# EAGLE library part STLINK-V3MINI (library st-linkV3MINI)
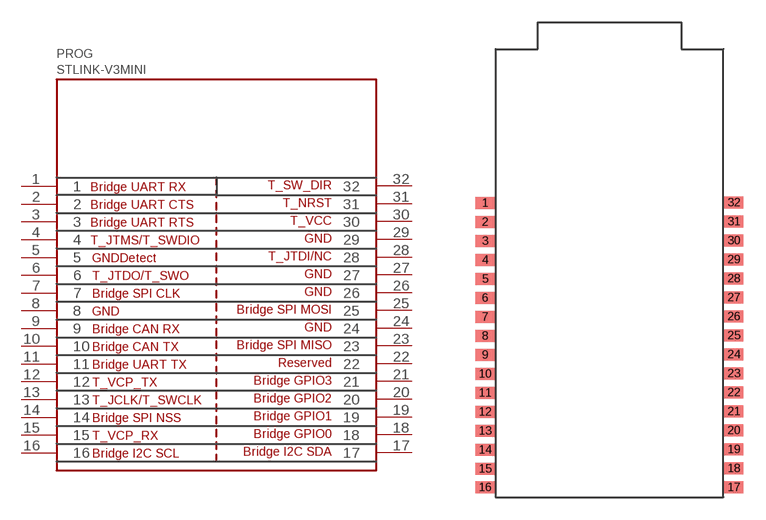
[diagram p0: symbol with the pads of ECOPACK; footprint ECOPACK]

Designator prefix PROG

## STLINK-V3MINI  [ECOPACK]
1  1
2  2
3  3
4  4
5  5
6  6
7  7
8  8
9  9
10  10
11  11
12  12
13  13
14  14
15  15
16  16
17  17
18  18
19  19
20  20
21  21
22  22
23  23
24  24
25  25
26  26
27  27
28  28
29  29
30  30
31  31
32  32

## Footprint ECOPACK (pad centres in mm)
smd 1.27 x 0.8: 1 -0.699,19.67; 2 -0.699,18.4; 3 -0.699,17.13; 4 -0.699,15.86; 5 -0.699,14.59; 6 -0.699,13.32; 7 -0.699,12.05; 8 -0.699,10.78; 9 -0.699,9.51; 10 -0.699,8.24; 11 -0.699,6.97; 12 -0.699,5.7; 13 -0.699,4.43; 14 -0.699,3.16; 15 -0.699,1.89; 16 -0.699,0.65; 17 15.938,0.65; 18 15.938,1.92; 19 15.938,3.19; 20 15.938,4.46; 21 15.938,5.73; 22 15.938,7; 23 15.938,8.27; 24 15.938,9.54; 25 15.938,10.81; 26 15.938,12.08; 27 15.938,13.35; 28 15.938,14.62; 29 15.938,15.89; 30 15.938,17.16; 31 15.938,18.43; 32 15.938,19.7